# EAGLE library part TPS63900 (library TPS63900)
1.8-5.5v Micropower Buckboost
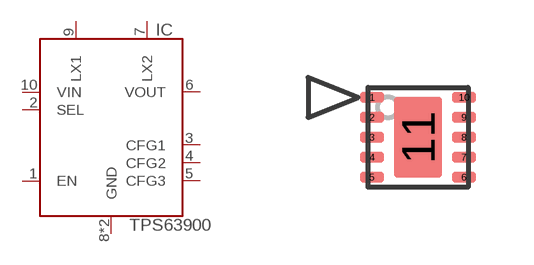
[diagram p0: symbol with the pads of WSON-5-0.5; footprint WSON-5-0.5]

Designator prefix IC

## TPS63900DSKR (MARK: 639; MF: Texas Instruments; MPN: TPS63900DSKR)  [WSON-5-0.5]
1  EN  in
2  SEL  in
3  CFG1  in
4  CFG2  in
5  CFG3  in
6  VOUT  out
7  LX2
8  GND  pwr
9  LX1
10  VIN  in
11  GND  pwr

## Footprint WSON-5-0.5 (pad centres in mm)
smd 0.6 x 0.25: 1 -1.15,1; 2 -1.15,0.5; 3 -1.15,0; 4 -1.15,-0.5; 5 -1.15,-1; 6 1.15,-1; 7 1.15,-0.5; 8 1.15,0; 9 1.15,0.5; 10 1.15,1
smd 1.2 x 2: 11 0,0